# EAGLE library part FCC-18-PADS (library custom)
the FFC=18 connector
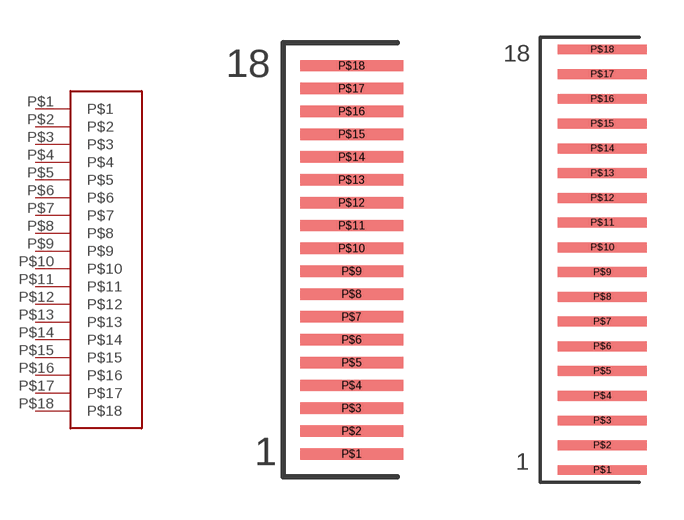
[diagram p1: symbol with the pads of FFC-18-0.8MM; footprints FFC-18-0.8MM, FFC-18-1.0MM]

Designator prefix -

## FCC-18-PADSPADS-0.8MM  [FFC-18-0.8MM]
P$1  P$1
P$2  P$2
P$3  P$3
P$4  P$4
P$5  P$5
P$6  P$6
P$7  P$7
P$8  P$8
P$9  P$9
P$10  P$10
P$11  P$11
P$12  P$12
P$13  P$13
P$14  P$14
P$15  P$15
P$16  P$16
P$17  P$17
P$18  P$18

## FCC-18-PADSPADS-1.0MM  [FFC-18-1.0MM]
Pads as for FFC-18-0.8MM

## Footprint FFC-18-0.8MM (pad centres in mm)
smd 3.6 x 0.4: P$1 0,0; P$2 0,0.8; P$3 0,1.6; P$4 0,2.4; P$5 0,3.2; P$6 0,4; P$7 0,4.8; P$8 0,5.6; P$9 0,6.4; P$10 0,7.2; P$11 0,8; P$12 0,8.8; P$13 0,9.6; P$14 0,10.4; P$15 0,11.2; P$16 0,12; P$17 0,12.8; P$18 0,13.6

## Footprint FFC-18-1.0MM (pad centres in mm)
smd 3.6 x 0.4: P$1 2,0; P$2 2,1; P$3 2,2; P$4 2,3; P$5 2,4; P$6 2,5; P$7 2,6; P$8 2,7; P$9 2,8; P$10 2,9; P$11 2,10; P$12 2,11; P$13 2,12; P$14 2,13; P$15 2,14; P$16 2,15; P$17 2,16; P$18 2,17